# Altium schematic symbol library 接插件.SchLib: 90 symbols
Pins are listed as number, name and electrical type; pins without a type are passive.

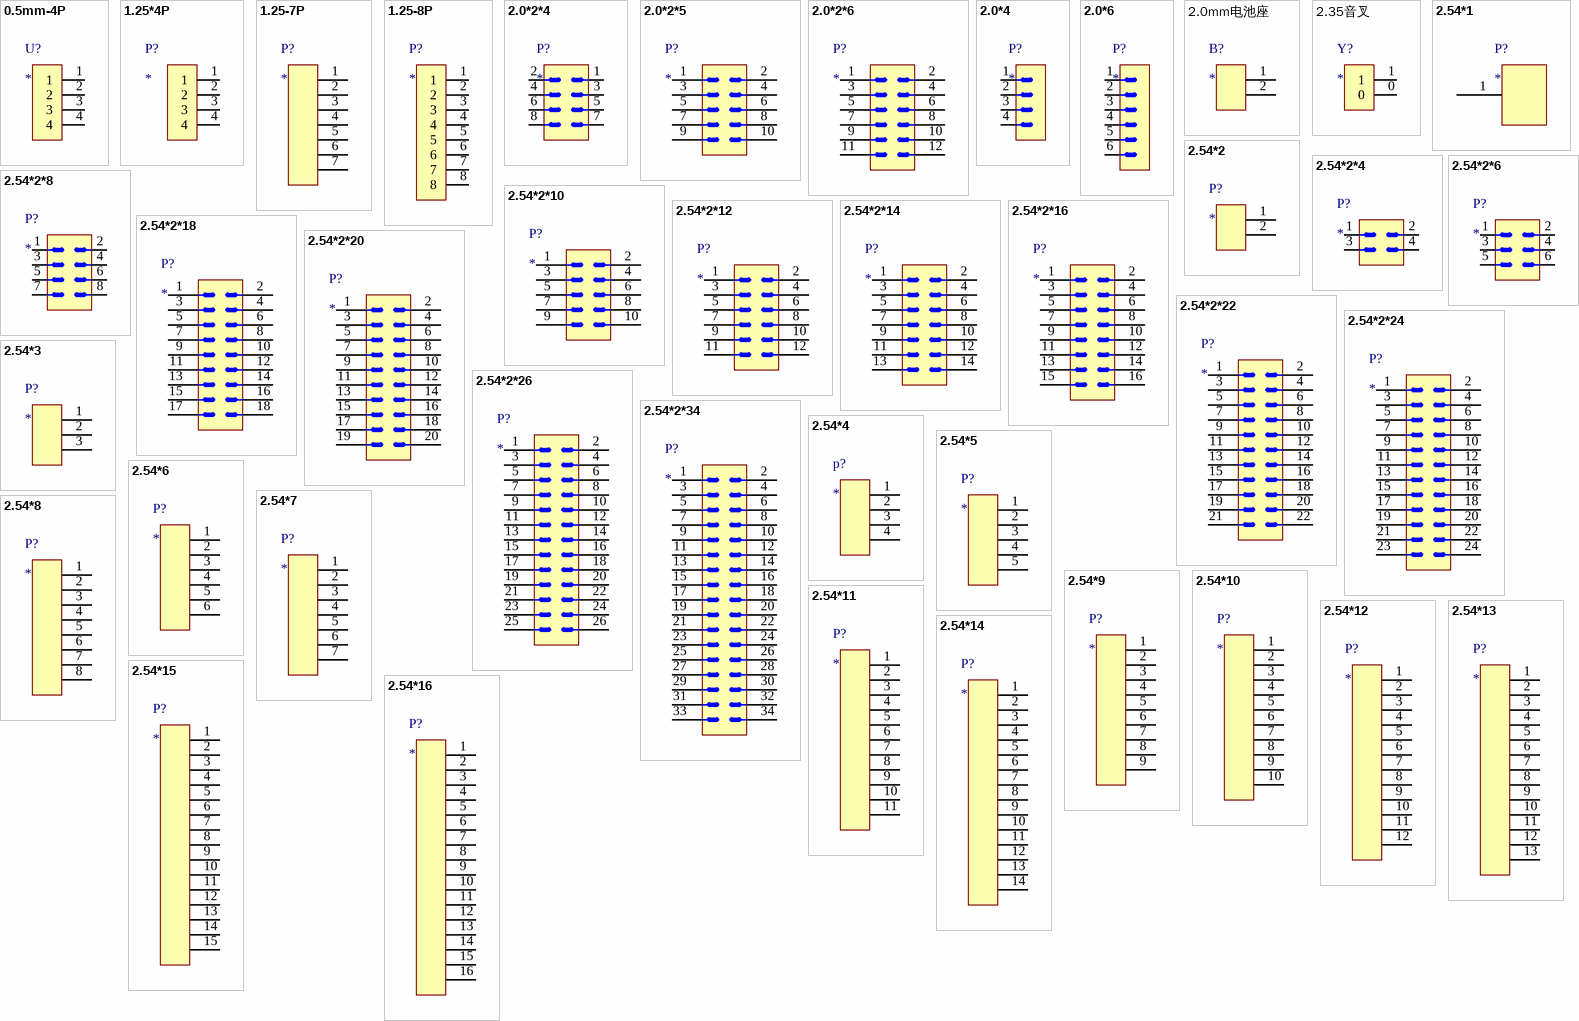
[diagram p0: symbols 0.5mm-4P to 2.54*16]

## 0.5mm-4P
designator U?
footprint 0.5mm-4P
pins: 1, 2, 3, 4

## 1.25*4P
designator P?
footprint 1.25*4P
pins: 1, 2, 3, 4

## 1.25-7P
designator P?
footprint 1.25-7P
pins: 1, 2, 3, 4, 5, 6, 7

## 1.25-8P
designator P?
footprint 1.25-8P
pins: 1, 2, 3, 4, 5, 6, 7, 8

## 2.0*2*4
designator P?
footprint 2.0*2*4
pins: 1, 2, 3, 4, 5, 6, 7, 8

## 2.0*2*5
designator P?
footprint 2.0*2*5
pins: 1, 2, 3, 4, 5, 6, 7, 8, 9, 10

## 2.0*2*6
designator P?
footprint 2.0*2*6
pins: 1, 2, 3, 4, 5, 6, 7, 8, 9, 10, 11, 12

## 2.0*4
designator P?
footprint 2.0*4
pins: 1, 2, 3, 4

## 2.0*6
designator P?
footprint 2.0*6
pins: 1, 2, 3, 4, 5, 6

## 2.0mm电池座
designator B?
footprint 2.0mm电池座
pins: 1, 2

## 2.35音叉
designator Y?
footprint 2.35音叉
pins: 0, 1

## 2.54*1
designator P?
footprint 2.54*1
pins: 1

## 2.54*2
designator P?
footprint 2.54*2
pins: 1, 2

## 2.54*2*4
designator P?
footprint 2.54*2*4
pins: 1, 2, 3, 4

## 2.54*2*6
designator P?
footprint 2.54*2*6
pins: 1, 2, 3, 4, 5, 6

## 2.54*2*8
designator P?
footprint 2.54*2*8
pins: 1, 2, 3, 4, 5, 6, 7, 8

## 2.54*2*10
designator P?
footprint 2.54*2*10
pins: 1, 2, 3, 4, 5, 6, 7, 8, 9, 10

## 2.54*2*12
designator P?
footprint 2.54*2*12
pins: 1, 2, 3, 4, 5, 6, 7, 8, 9, 10, 11, 12

## 2.54*2*14
designator P?
footprint 2.54*2*14
pins: 1, 2, 3, 4, 5, 6, 7, 8, 9, 10, 11, 12, 13, 14

## 2.54*2*16
designator P?
footprint 2.54*2*16
pins: 1, 2, 3, 4, 5, 6, 7, 8, 9, 10, 11, 12, 13, 14, 15, 16

## 2.54*2*18
designator P?
footprint 2.54*2*18
pins: 1, 2, 3, 4, 5, 6, 7, 8, 9, 10, 11, 12, 13, 14, 15, 16, 17, 18

## 2.54*2*20
designator P?
footprint 2.54*2*20
pins: 1, 2, 3, 4, 5, 6, 7, 8, 9, 10, 11, 12, 13, 14, 15, 16, 17, 18, 19, 20

## 2.54*2*22
designator P?
footprint 2.54*2*22
pins: 1, 2, 3, 4, 5, 6, 7, 8, 9, 10, 11, 12, 13, 14, 15, 16, 17, 18, 19, 20, 21, 22

## 2.54*2*24
designator P?
footprint 2.54*2*24
pins: 1, 2, 3, 4, 5, 6, 7, 8, 9, 10, 11, 12, 13, 14, 15, 16, 17, 18, 19, 20, 21, 22, 23, 24

## 2.54*2*26
designator P?
footprint 2.54*2*26
pins: 1, 2, 3, 4, 5, 6, 7, 8, 9, 10, 11, 12, 13, 14, 15, 16, 17, 18, 19, 20, 21, 22, 23, 24, 25, 26

## 2.54*2*34
designator P?
footprint 2.54*2*34
pins: 1, 2, 3, 4, 5, 6, 7, 8, 9, 10, 11, 12, 13, 14, 15, 16, 17, 18, 19, 20, 21, 22, 23, 24, 25, 26, 27, 28, 29, 30, 31, 32, 33, 34

## 2.54*3
designator P?
footprint 2.54*3
footprint 2.54*3
pins: 1, 2, 3

## 2.54*4
designator p?
footprint 2.54*4
pins: 1, 2, 3, 4

## 2.54*5
designator P?
footprint 2.54*5
pins: 1, 2, 3, 4, 5

## 2.54*6
designator P?
footprint 2.54*6
pins: 1, 2, 3, 4, 5, 6

## 2.54*7
designator P?
footprint 2.54*7
pins: 1, 2, 3, 4, 5, 6, 7

## 2.54*8
designator P?
footprint 2.54*8
pins: 1, 2, 3, 4, 5, 6, 7, 8

## 2.54*9
designator P?
footprint 2.54*9
pins: 1, 2, 3, 4, 5, 6, 7, 8, 9

## 2.54*10
designator P?
footprint 2.54*10
pins: 1, 2, 3, 4, 5, 6, 7, 8, 9, 10

## 2.54*11
designator P?
footprint 2.54*11
pins: 1, 2, 3, 4, 5, 6, 7, 8, 9, 10, 11

## 2.54*12
designator P?
footprint 2.54*12
pins: 1, 2, 3, 4, 5, 6, 7, 8, 9, 10, 11, 12

## 2.54*13
designator P?
pins: 1, 2, 3, 4, 5, 6, 7, 8, 9, 10, 11, 12, 13

## 2.54*14
designator P?
footprint 2.54*14
pins: 1, 2, 3, 4, 5, 6, 7, 8, 9, 10, 11, 12, 13, 14

## 2.54*15
designator P?
footprint 2.54*15
pins: 1, 2, 3, 4, 5, 6, 7, 8, 9, 10, 11, 12, 13, 14, 15

## 2.54*16
designator P?
footprint 2.54*16
pins: 1, 2, 3, 4, 5, 6, 7, 8, 9, 10, 11, 12, 13, 14, 15, 16

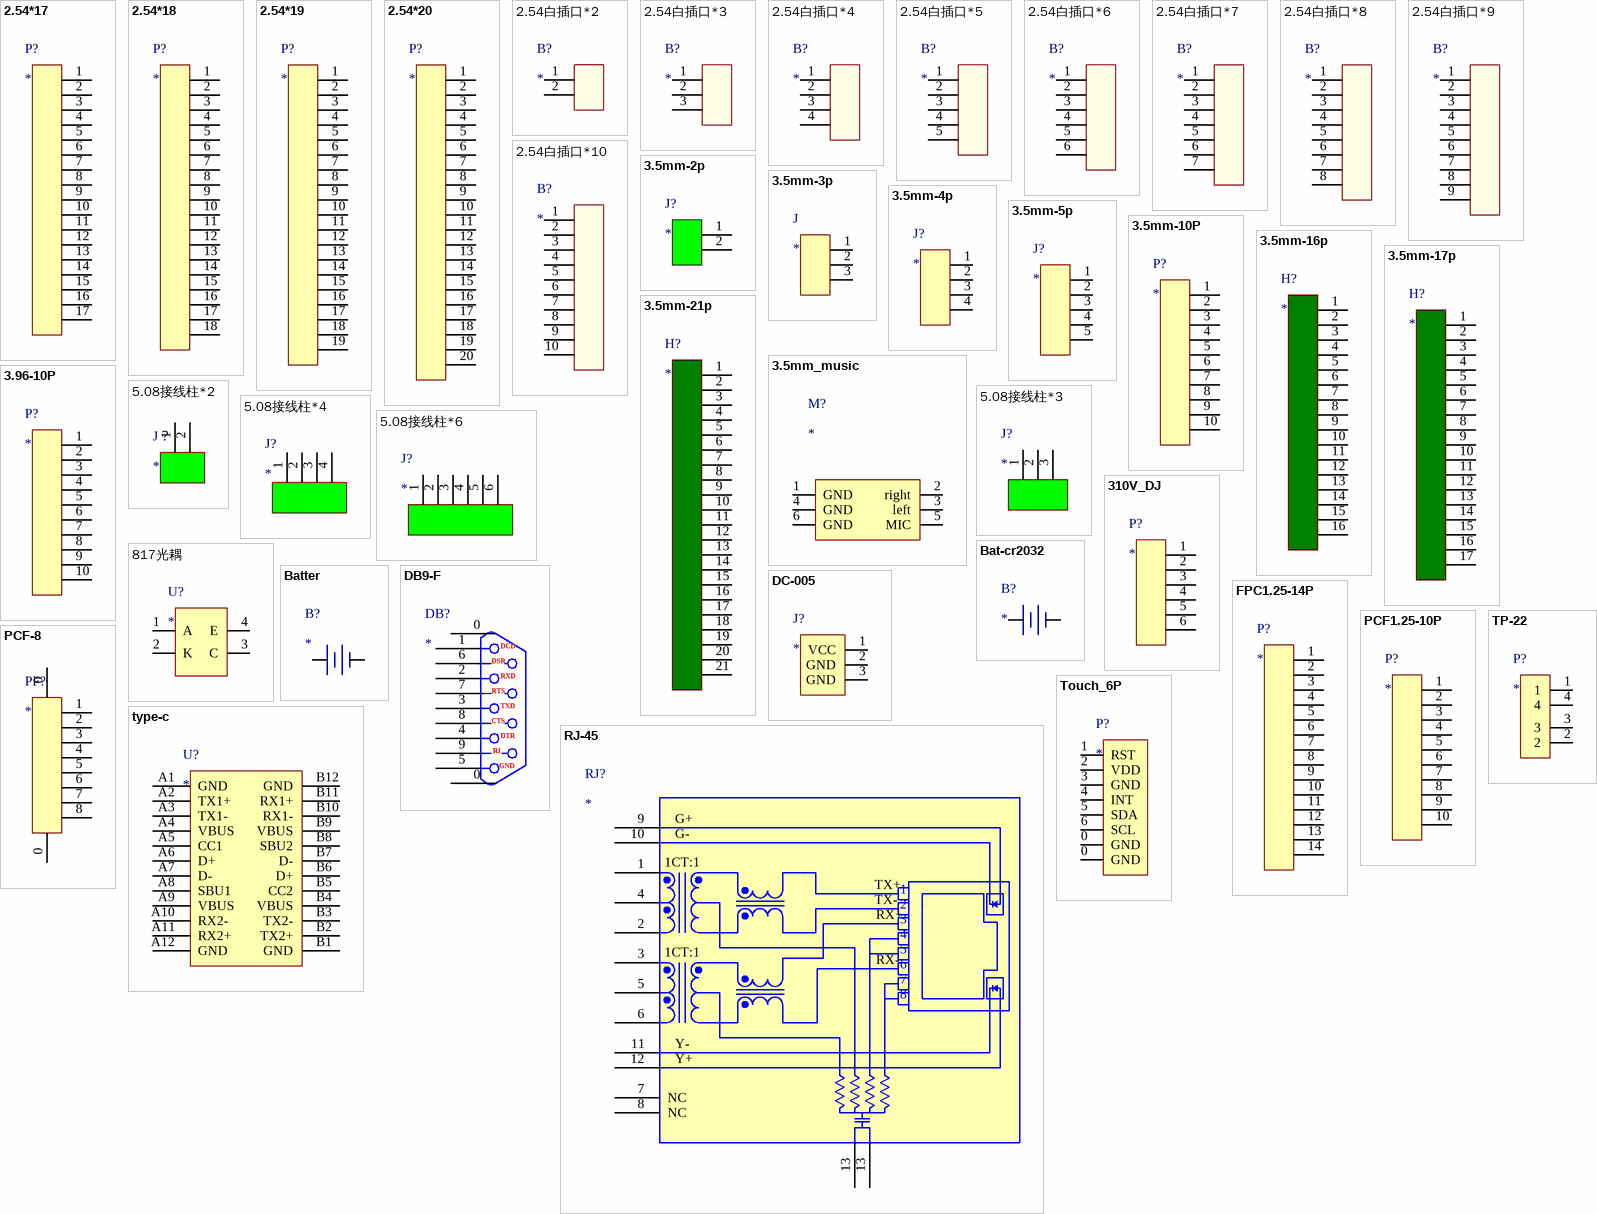
[diagram p1: symbols 2.54*17 to type-c]

## 2.54*17
designator P?
footprint 2.54*17
pins: 1, 2, 3, 4, 5, 6, 7, 8, 9, 10, 11, 12, 13, 14, 15, 16, 17

## 2.54*18
designator P?
footprint 2.54*18
pins: 1, 2, 3, 4, 5, 6, 7, 8, 9, 10, 11, 12, 13, 14, 15, 16, 17, 18

## 2.54*19
designator P?
footprint 2.54*19
pins: 1, 2, 3, 4, 5, 6, 7, 8, 9, 10, 11, 12, 13, 14, 15, 16, 17, 18, 19

## 2.54*20
designator P?
footprint 2.54*20
pins: 1, 2, 3, 4, 5, 6, 7, 8, 9, 10, 11, 12, 13, 14, 15, 16, 17, 18, 19, 20

## 2.54白插口*2
designator B?
footprint 2.54白插口*2
pins: 1, 2

## 2.54白插口*3
designator B?
footprint 2.54白插口*3
pins: 1, 2, 3

## 2.54白插口*4
designator B?
footprint 2.54白插口*4
pins: 1, 2, 3, 4

## 2.54白插口*5
designator B?
footprint 2.54白插口*5
pins: 1, 2, 3, 4, 5

## 2.54白插口*6
designator B?
footprint 2.54白插口*6
pins: 1, 2, 3, 4, 5, 6

## 2.54白插口*7
designator B?
footprint 2.54白插口*7
pins: 1, 2, 3, 4, 5, 6, 7

## 2.54白插口*8
designator B?
footprint 2.54白插口*8
pins: 1, 2, 3, 4, 5, 6, 7, 8

## 2.54白插口*9
designator B?
footprint 2.54白插口*9
pins: 1, 2, 3, 4, 5, 6, 7, 8, 9

## 2.54白插口*10
designator B?
footprint 2.54白插口*10
pins: 1, 2, 3, 4, 5, 6, 7, 8, 9, 10

## 3.5mm-2p
designator J?
footprint 3.5mm-2p
pins: 1, 2

## 3.5mm-3p
designator J
footprint 3.5mm-3p
pins: 1, 2, 3

## 3.5mm-4p
designator J?
footprint 3.5mm-4p
pins: 1, 2, 3, 4

## 3.5mm-5p
designator J?
footprint 3.5mm-5p
pins: 1, 2, 3, 4, 5

## 3.5mm-10P
designator P?
footprint 3.5mm-10P
pins: 1, 2, 3, 4, 5, 6, 7, 8, 9, 10

## 3.5mm-16p
designator H?
footprint 3.5mm-16p
pins: 1, 2, 3, 4, 5, 6, 7, 8, 9, 10, 11, 12, 13, 14 (oc), 15, 16

## 3.5mm-17p
designator H?
footprint 3.5mm-17P
pins: 1, 2, 3, 4, 5, 6, 7, 8, 9, 10, 11, 12, 13, 14 (oc), 15, 16, 17

## 3.5mm-21p
designator H?
footprint 3.5mm-21p
pins: 1, 2, 3, 4, 5, 6, 7, 8, 9, 10, 11, 12, 13, 14 (oc), 15, 16, 17, 18, 19, 20, 21

## 3.5mm_music
designator M?
footprint 3.5mm_music
pins: 1 GND, 2 right, 3 left, 4 GND, 5 MIC, 6 GND

## 3.96-10P
designator P?
footprint 3.96-10P
pins: 1, 2, 3, 4, 5, 6, 7, 8, 9, 10

## 5.08接线柱*2
designator J？
footprint 5.08接线柱*2
pins: 1, 2

## 5.08接线柱*3
designator J?
footprint 5.08接线柱*3
pins: 1, 2, 3

## 5.08接线柱*4
designator J?
footprint 5.08接线柱*4
pins: 1, 2, 3, 4

## 5.08接线柱*6
designator J?
footprint 5.08接线柱*6
pins: 1, 2, 3, 4, 5 4, 6 4

## 310V_DJ
designator P?
footprint 310V_DJ
pins: 1, 2, 3, 4, 5, 6

## 817光耦
designator U?
footprint 817
pins: 1 A, 2 K, 3 C, 4 E

## Bat-cr2032
designator B?
footprint CR2032
pins: 0 -, 1 +

## Batter
designator B?
footprint CR2032 BS-10
pins: 0 -, 1 +

## DB9-F
designator DB?
footprint DB9-F
pins: 0, 0, 1 DCD, 2 RXD, 3 TXD, 4 DTR, 5 GND, 6 DSR, 7 RTS, 8 CTS, 9 RI

## DC-005
designator J?
footprint DC-005
pins: 1 VCC, 2 GND, 3 GND

## FPC1.25-14P
designator P?
footprint PCF1.25-14P
pins: 1, 2, 3, 4, 5, 6, 7, 8, 9, 10, 11, 12, 13, 14

## PCF1.25-10P
designator P?
footprint PCF1.25-10P
pins: 1, 2, 3, 4, 5, 6, 7, 8, 9, 10

## PCF-8
designator PF?
footprint PCF-8
pins: 0, 0, 1, 2, 3, 4, 5, 6, 7, 8

## RJ-45
designator RJ?
footprint RJ-45
pins: 1 TD+, 2 TD-, 3 RD+, 4 TCT, 5 RCT, 6 RD-, 7 NC, 8 NC (power), 9 DG+, 10 DG-, 11 DY-, 12 DY+, 13 SGND (power), 13 SGND (power)
text: G+; G-; 1CT:1; TX+; TX-; RX+; RX-; Y-; Y+

## Touch_6P
designator P?
footprint Touch_6P
pins: 0 GND, 0 GND, 1 RST, 2 VDD, 3 GND, 4 INT, 5 SDA, 6 SCL

## TP-22
designator P?
footprint TP-22
pins: 1, 2, 3, 4

## type-c
designator U?
footprint TYPE-C
footprint TYPE-C
pins: A1 GND, A2 TX1+, A3 TX1-, A4 VBUS, A5 CC1, A6 D+, A7 D-, A8 SBU1, A9 VBUS, A10 RX2-, A11 RX2+, A12 GND, B1 GND, B2 TX2+, B3 TX2-, B4 VBUS, B5 CC2, B6 D+, B7 D-, B8 SBU2, B9 VBUS, B10 RX1-, B11 RX1+, B12 GND

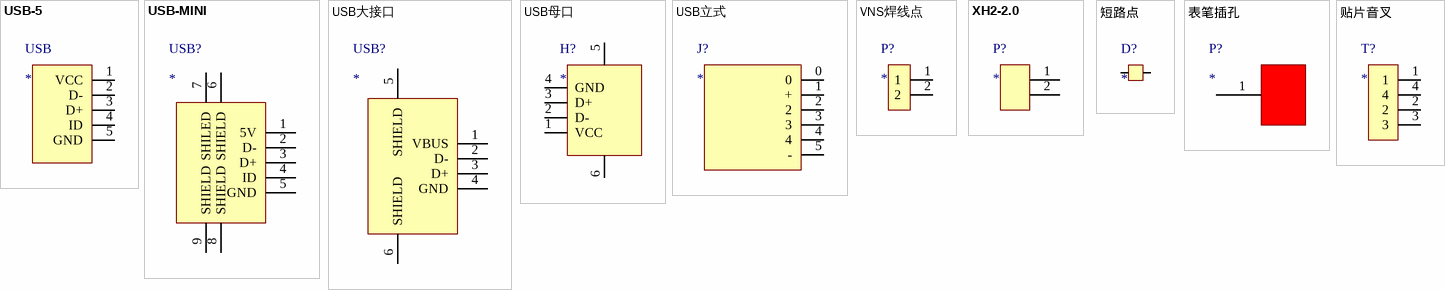
[diagram p2: symbols USB-5 to 贴片音叉]

## USB-5
designator USB
footprint USB-5
pins: 1 VCC, 2 D-, 3 D+, 4 ID, 5 GND

## USB-MINI
designator USB?
footprint USB-MINI
pins: 1 5V, 2 D-, 3 D+, 4 ID, 5 GND, 6 SHIELD, 7 SHILED, 8 SHIELD, 9 SHIELD

## USB大接口
designator USB?
footprint USB大插头
pins: 1 VBUS, 2 D-, 3 D+, 4 GND, 5 SHIELD, 6 SHIELD

## USB母口
designator H?
footprint USB母口
pins: 1 VCC, 2 D-, 3 D+, 4 GND, 5, 6

## USB立式
designator J?
footprint USB立式
pins: 0, 1 +, 2, 3, 4, 5 -

## VNS焊线点
designator P?
footprint 焊线点
pins: 1, 2

## XH2-2.0
designator P?
footprint XH2.0-2
pins: 1, 2

## 短路点
designator D?
footprint 短路点
pins: 1, 2

## 表笔插孔
designator P?
footprint 表笔插孔
pins: 1

## 贴片音叉
designator T?
footprint 贴片音叉
pins: 1, 2, 3, 4